# EAGLE library part 7SEGLEDCA (library xess)
Common-anode 7-segment LED display
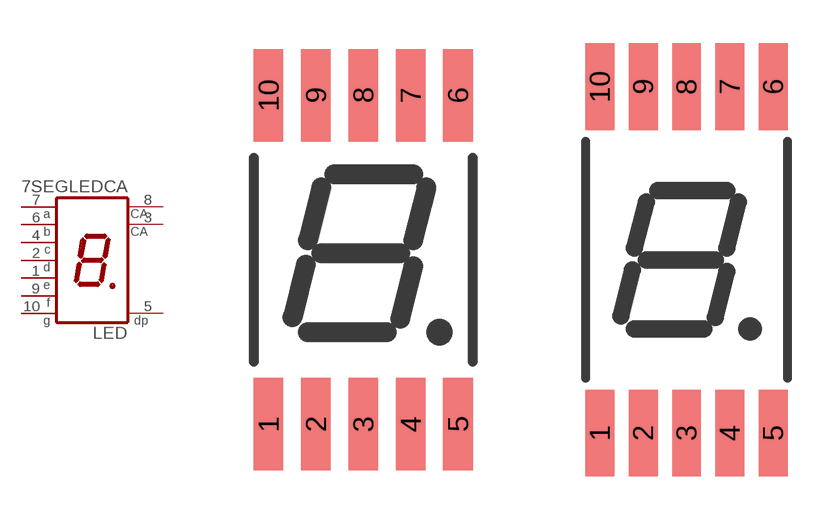
[diagram p50: symbol with the pads of KPSA02; footprints KPSA02, KPSA03]

Designator prefix LED

## 7SEGLEDCA0.2" (COLOR: RED; DIGIKEY#: 754-1402-1-ND; MANF: Kingbright; MANF#: ACSA02-41EWA-F01; MOUSER#: 604-ACSA02-41EWA)  [KPSA02]
1  E  pas
2  D  pas
3  CA  pas
4  C  pas
5  DP  pas
6  B  pas
7  A  pas
8  CA  pas
9  F  pas
10  G  pas

## 7SEGLEDCA0.3" (COLOR: RED; DIGIKEY#: 754-1023-1-ND; MANF: Kingbright; MANF#: ACSA03-41EWA-F01; MOUSER#: 604-ACSA03-41EWA)  [KPSA03]
Pads as for KPSA02

## Footprint KPSA02 (pad centres in mm)
smd 0.9 x 2.8: 1 0,0; 2 1.44,0; 3 2.88,0; 4 4.32,0; 5 5.76,0; 6 5.76,10; 7 4.32,10; 8 2.88,10; 9 1.44,10; 10 0,10

## Footprint KPSA03 (pad centres in mm)
smd 1 x 3: 1 0,0; 2 1.5,0; 3 3,0; 4 4.5,0; 5 6,0; 6 6,12; 7 4.5,12; 8 3,12; 9 1.5,12; 10 0,12